# Altium footprint library PCB_General.PcbLib: 58 footprints (part 4 of 4)
Each footprint in its own frame and in the unit in brackets; x right, y up, seen from the top. Pads: shape width x height; smd on the part's side, far side on the other; paste and mask are expansions set on the pad; w line width, h text height; cw(c..) or ccw(c..) is an arc to the next point about the centre after c.
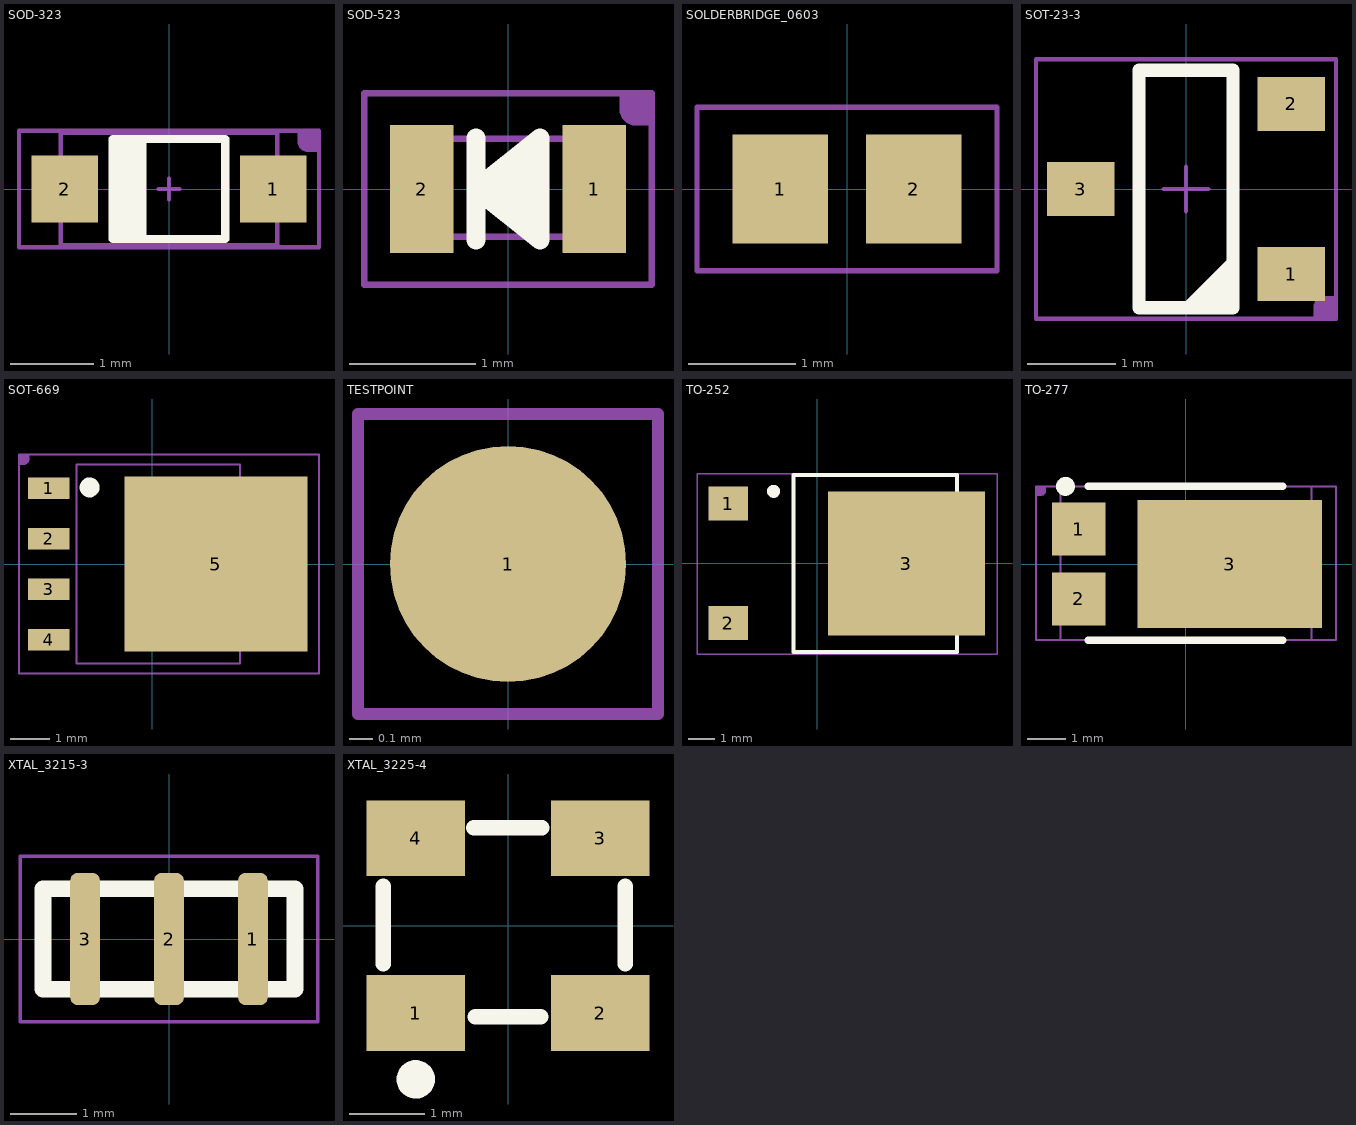
[diagram p3: the footprints below, top view; thin cyan lines are the x and y axes]

## SOD-323 [mm]
pads (2):
  rect 0.8x0.8 smd: 1(1.25,0) 2(-1.25,0)
Top Overlay:
  region: -0.725,-0.6 -0.725,0.6 -0.275,0.6 -0.275,-0.6
  lines w0.1: -0.675,-0.6 0.675,-0.6 0.675,0.6 -0.675,0.6
Top Assembly (Mech13):
  lines w0.051: -0.127,0 0.127,0 ; 0,-0.127 0,0.127 ; -1.3,-0.675 1.3,-0.675 1.3,0.675 -1.3,0.675 -1.3,-0.675
Top Component:
  region: 1.8,0.7 1.8,0.446 1.673,0.446 1.648,0.446 1.601,0.465 1.565,0.501 1.546,0.548 1.546,0.573 1.546,0.7
  lines w0.051: -1.8,-0.7 1.8,-0.7 1.8,0.7 -1.8,0.7 -1.8,-0.7
  text ".Designator" at -1.168,-0.508 h2.03
3D body "User Library-SOD323-1.STEP": height 1.1, standoff 0, extent -1.3,-0.675 1.3,0.675

## SOD-523 [mil]
height 45.28
pads (2):
  rect 20x40 smd: 1(27,0) 2(-27,0)
Top Overlay:
  region: 10,-16 10,16 -10,0
  lines w6: -10,-16 -10,16 ; -10,0 10,-16 10,16 -10,0
Top Assembly (Mech13):
  lines w2: -10,0 10,0 ; -5,0 5,0 ; 0,-10 0,10 ; 0,-5 0,5 ; -31.5,-15 31.5,-15 31.5,15.7 -31.5,15.7 -31.5,-15
Top Component:
  region: 45,30 45,20 40,20 39.01,20 37.17,20.76 35.76,22.17 35,24.01 35,25 35,30
  lines w2: -45,-30 -45,30 45,30 45,-30 -45,-30
  text ".Designator" at -35,-15 h60
3D body "User Library-SOD-523F.STEP": height 27.56, standoff 0, extent -31.5,-15.7 31.5,15.7

## SOLDERBRIDGE_0603 [mil]
pads (2):
  rect 35x40 smd: 1(-24.5,0) 2(24.5,0)
Top Component:
  lines w2: -55,-30 -55,30 55,30 55,-30 -55,-30
  text ".Designator" at -35,-15 h60

## SOT-23-3 [mil]
height 39.5
pads (3):
  rect 30x24 smd: 1(47,-38) 2(47,38) 3(-47,0)
Top Overlay:
  region: 21,-53 -3,-53 21,-29
  lines w6: -21,-53 21,-53 21,53 -21,53 -21,-53
Top Assembly (Mech13):
  lines w2: -10,0 10,0 ; 0,-10 0,10
Top Component:
  region: 67,-58 57,-58 57,-53 57,-52.01 57.76,-50.17 59.17,-48.76 61.01,-48 62,-48 67,-48
  lines w2: -67,-58 -67,58 67,58 67,-58 -67,-58
  text ".Designator" at -41,-20 h80
3D body "User Library-SOT23-3.STEP": height 51.18, standoff 0, extent -55.12,-57.09 55.11,57.09

## SOT-669 [mm] "DPAK, 4-Leads, Body 5x4.1mm, Pitch 1.27mm, IPC Medium Density"
height 1.2
pads (5):
  rect 1.05x0.55 smd: 1(-2.6,1.905) 2(-2.6,0.635) 3(-2.6,-0.635) 4(-2.6,-1.905)
  rect 4.6x4.4 smd: 5(1.6,0)
Top Overlay:
  circle w0.25: c-1.575,1.925 r0.125
Top Assembly (Mech13):
  lines w0.051: -1.9,-2.5 2.2,-2.5 2.2,2.5 -1.9,2.5 -1.9,-2.5
Top Component:
  region: -3.35,2.75 -3.096,2.75 -3.096,2.623 -3.096,2.598 -3.115,2.551 -3.151,2.515 -3.198,2.496 -3.223,2.496 -3.35,2.496
  lines w0.05: -3.35,-2.75 -3.35,2.75 4.191,2.75 4.191,-2.75 -3.35,-2.75
  text ".Designator" at -0.787,-0.508 h2.03
3D body "SOT669-CW.step": height 1.15, standoff -0.05, extent -2.878,-2.45 3.55,2.45

## TESTPOINT [mm]
pads (1):
  round 1 smd: 1(0,0)
Top Component:
  lines w0.051: -0.635,-0.635 0.635,-0.635 0.635,0.635 -0.635,0.635 -0.635,-0.635
  text ".Designator" at -0.508,-0.254 h0.76

## TO-252 [mm]
pads (3):
  rect 1.5x1.3 smd: 1(-3.4,2.28) 2(-3.4,-2.28)
  rect 6x5.5 smd: 3(3.4,-0.01)
Top Overlay:
  circle w0.25: c-1.67,2.75 r0.125
  lines w0.154: -0.911,-3.384 5.338,-3.384 5.338,3.372 -0.911,3.372 -0.911,-3.384
Top Component:
  lines w0.051: -4.595,-3.475 6.862,-3.475 6.862,3.425 -4.595,3.425 -4.595,-3.475
  text ".Designator" at -1.114,-0.641 h2.03
3D body "User Library-DPAK_TO-252AA.SLDPRT": height 2.37, standoff -0.03, extent -3.961,-3.373 6.139,3.361

## TO-277 [mm]
pads (3):
  rect 1.4x1.39 smd: 1(-2.825,0.92) 2(-2.825,-0.92)
  rect 4.86x3.36 smd: 3(1.157,0)
Top Overlay:
  circle w0.25: c-3.175,2.045 r0.125
  lines w0.2: -2.575,-2.005 2.55,-2.005 ; -2.575,2.045 2.55,2.045
Top Assembly (Mech13):
  lines w0.051: -0.254,0 0.254,0 ; 0,-0.254 0,0.254 ; -3.3,-2.005 -3.3,2.045 3.3,2.045 3.3,-2.005 -3.3,-2.005
Top Component:
  region: -3.95,2.045 -3.696,2.045 -3.696,1.918 -3.696,1.893 -3.715,1.846 -3.751,1.81 -3.798,1.791 -3.823,1.791 -3.95,1.791
  lines w0.051: -3.95,-2.005 3.95,-2.005 3.95,2.045 -3.95,2.045 -3.95,-2.005
  text ".Designator" at -1.676,-0.381 h2.03
3D body "PowerDI-5.STEP": height 1.17, standoff 0.02, extent -3.3,-2.005 3.3,2.045

## XTAL_3215-3 [mm]
pads (3):
  rrect50% 0.45x2 smd: 1(1.27,0) 2(0,0) 3(-1.27,0)
Top Overlay:
  lines w0.254: -1.905,-0.762 1.905,-0.762 1.905,0.762 -1.905,0.762 -1.905,-0.762
Top Assembly (Mech13):
  lines w0.051: -0.127,0 0.127,0 ; 0,-0.127 0,0.127 ; -1.9,-0.8 1.9,-0.8 1.9,0.8 -1.9,0.8 -1.9,-0.8
Top Component:
  lines w0.051: -2.25,-1.25 2.25,-1.25 2.25,1.25 -2.25,1.25 -2.25,-1.25
  text ".Designator" at -1.524,-0.508 h2.03
3D body: height 1, standoff 0, extent -1.9,-0.8 1.9,0.8

## XTAL_3225-4 [mm]
pads (4):
  rect 1.3x1 smd: 1(-1.219,-1.156) 2(1.219,-1.156) 3(1.219,1.156) 4(-1.219,1.156)
Top Overlay:
  circle w0.254: c-1.219,-2.032 r0.127
  lines w0.203: -1.651,-0.507 -1.651,0.519 ; -0.452,1.294 0.45,1.294 ; -0.432,-1.207 0.432,-1.207 ; 1.549,-0.506 1.549,0.519
Top Component:
  text ".Designator" at -1.016,-0.508 h2.03